# Altium schematic symbol library SIHB12N60E-GE3.SCHLIB: 1 symbol
Pins are listed as number, name and electrical type; pins without a type are passive.

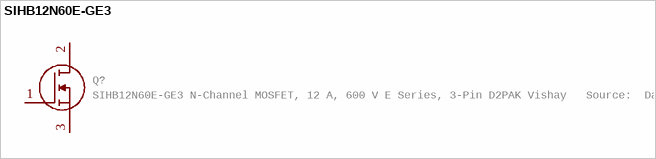
[diagram p0: symbol SIHB12N60E-GE3]

## SIHB12N60E-GE3
designator Q?, comment SIHB12N60E-GE3 N-Channel MOSFET, 12 A, 600 V E Series, 3-Pin D2PAK Vishay   Source:  Datasheet
GateName_1: G$1; SymbolName_1: SIHB12N60E-GE3; LibraryName: SIHB12N60E-GE3; DeviceSetName: SIHB12N60E-GE3; Package: SIHB12N60EGE3; Manufacturer_Name: Vishay; Manufacturer_Part_Number: SIHB12N60E-GE3; Arrow_Part_Number: SIHB12N60E-GE3; Arrow_Price-Stock: https://www.arrow.com/en/products/sihb12n60e-ge3/vishay; Mouser_Part_Number: 78-SIHB12N60E-GE3; Mouser_Price-Stock: https://www.mouser.com/Search/Refine.aspx?Keyword=78-SIHB12N60E-GE3; Description: SIHB12N60E-GE3 N-Channel MOSFET, 12 A, 600 V E Series, 3-Pin D2PAK Vishay; Height: 4.83mm
footprint SIHB12N60EGE3
pins: 1 G (io), 2 D (io), 3 S (io)